# Altium schematic symbol library SSST.SchLib: 25 symbols
Pins are listed as number, name and electrical type; pins without a type are passive.

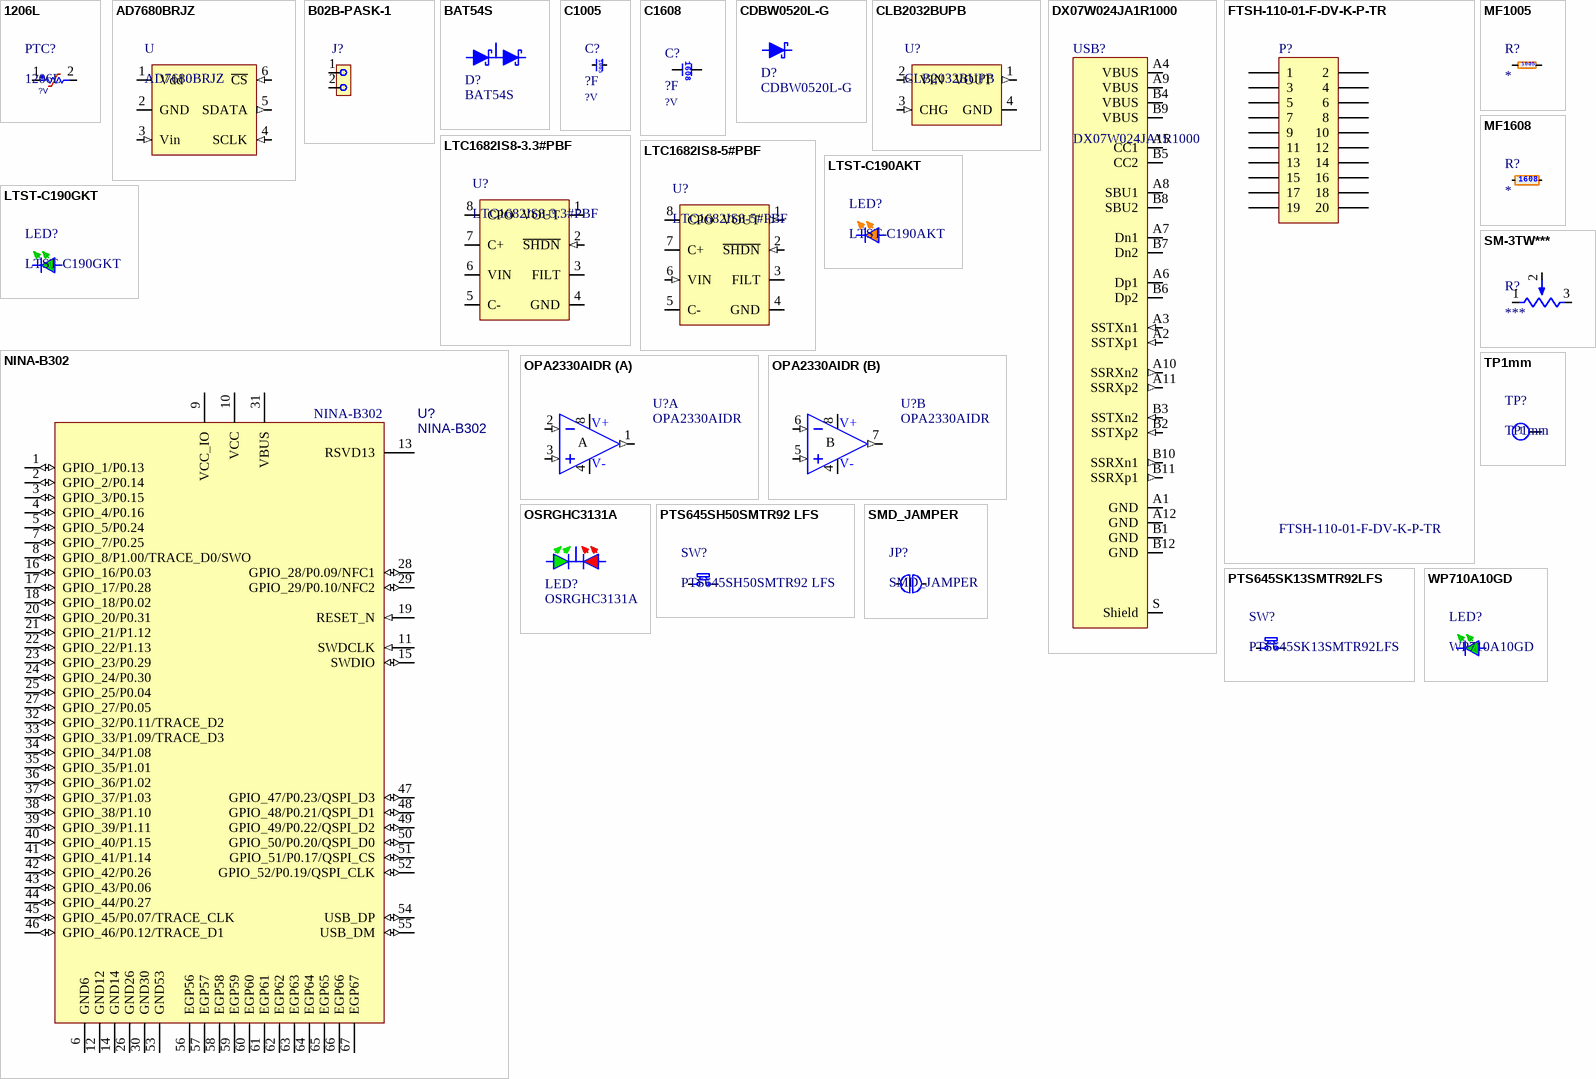
[diagram p0: symbols 1206L to WP710A10GD]

## 1206L
designator PTC?  Voltage: ?V
Resettable PTC; Vendor: Littelfuse; Trip_Current: *; Hold_Current: *
footprint 1206L (Footprint not found)
pins: 1, 2

## AD7680BRJZ
designator U
16bit ADC 2.5V～5.5V SOT23; Vender: Analog Devices
footprint SOT-23-6 (SOT-23/SC-74A; 6 Leads; Body 3.1 x 3.1 mm)
pins: 1 Vdd (power), 2 GND (power), 3 Vin (in), 4 SCLK (in), 5 SDATA (out), 6 ~{CS} (in)

## B02B-PASK-1
designator J?
雄,ストレート,1列2ピン; Vendor: JST
footprint B02B-PASK-1 (JST2ピンコネクタ)
pins: 1, 2

## BAT54S
designator D?
ダブル直列ショットキー; Vendor: Fairchild
footprint SOT-23 (SOT23, 3-Leads, Body 2.9x1.3mm, Pitch 0.95mm, Lead Span 2.4mm)
pins: 1 A, 2 K, 3 C

## C1005
designator C?  Tag: ?F  Voltage: ?V  (hidden comment: C1005)
セラコン1005サイズ; Vendor: *
footprint C1005
pins: 1, 2
text: 1005

## C1608
designator C?  Tag: ?F  Voltage: ?V  (hidden comment: C1608)
セラコン1608サイズ; Vendor: *
footprint C1608
pins: 1, 2
text: 1608

## CDBW0520L-G
designator D?
Schottky Rectifier; Vendor: Comchip Technology; Voltage: 20V; Current: 500mA
footprint SOD-123
pins: A, K

## CLB2032BUPB
designator U?
CLB電池ユニット　ピンタイプ
footprint CLB2032BUPB (3.7V出力電池　ピン出力タイプ)
pins: 1 VOUT (out), 2 VIN (in), 3 CHG (in), 4 GND (power)

## DX07W024JA1R1000
designator USB?
USB3.1 Type-C; Vendor: JAE
footprint DX07W024JA1R1000 (USB3.1 Type-C)
pins: A1 GND (power), A2 SSTXp1 (in), A3 SSTXn1 (in), A4 VBUS, A5 CC1, A6 Dp1 (io), A7 Dn1 (io), A8 SBU1, A9 VBUS, A10 SSRXn2 (out), A11 SSRXp2 (out), A12 GND (power), B1 GND (power), B2 SSTXp2 (in), B3 SSTXn2 (in), B4 VBUS, B5 CC2, B6 Dp2 (io), B7 Dn2 (io), B8 SBU2, B9 VBUS, B10 SSRXn1 (out), B11 SSRXp1 (out), B12 GND (power), S Shield

## FTSH-110-01-F-DV-K-P-TR
designator P?
Header, 2 x 10 -Pin 1.27mm
footprint Headerpin 2x10 (Headerpin 2x10,1.27mm Pitch)
pins: 1, 2, 3, 4, 5, 6, 7, 8, 9, 10, 11, 12, 13, 14, 15, 16, 17, 18, 19, 20

## LTC1682IS8-3.3#PBF
designator U?
IC REG CHARGE PUMP 3.3V 8SOIC
footprint SOIC8_3.9mm (3.9mm Wide,1.27mm Pitch)
pins: 1 VOUT (power), 2 ~{SHDN} (in), 3 FILT, 4 GND (power), 5 C-, 6 VIN (power), 7 C+, 8 CPO

## LTC1682IS8-5#PBF
designator U?
IC REG CHARGE PUMP 5V MSOP8
footprint SOIC8_3.9mm (3.9mm Wide,1.27mm Pitch)
pins: 1 VOUT (out), 2 ~{SHDN} (in), 3 FILT, 4 GND (power), 5 C-, 6 VIN (in), 7 C+, 8 CPO

## LTST-C190AKT
designator LED?
LED 1608 AMBER; Vendor: Lite-On; Compatible: APT1608SECK; Color: AMBER
footprint LED1608
pins: A, K

## LTST-C190GKT
designator LED?
LED 1608 GREEN; Vendor: Lite-On; Compatible: APT1608SGC; Color: Green
footprint LED1608
pins: A, K

## MF1005
designator R?  (value not drawn)
薄膜チップ抵抗1005サイズ; Vendor: *; Tag: *
footprint R1005
pins: 1, 2
text: 1005

## MF1608
designator R?  (value not drawn)
薄膜チップ抵抗1608サイズ; Vendor: *; Tag: *
footprint R1608
pins: 1, 2
text: 1608

## NINA-B302
designator U?
u-blox NINA-B302 Bluetooth 5 LE, 802.15.4 module; Part Description: Stand-alone Bluetooth low energy module; Manufacturer: u-blox; Value: NINA-B302
footprint NINA_LGA67R_1500X1000X338_PIFA (Stand-alone Bluetooth low energy module)
pins: 1 GPIO_1/P0.13 (io), 2 GPIO_2/P0.14 (io), 3 GPIO_3/P0.15 (io), 4 GPIO_4/P0.16 (io), 5 GPIO_5/P0.24 (io), 6 GND6 (power), 7 GPIO_7/P0.25 (io), 8 GPIO_8/P1.00/TRACE_D0/SWO (io), 9 VCC_IO (power), 10 VCC (power), 11 SWDCLK (in), 12 GND12 (power), 13 RSVD13, 14 GND14 (power), 15 SWDIO (io), 16 GPIO_16/P0.03 (io), 17 GPIO_17/P0.28 (io), 18 GPIO_18/P0.02 (io), 19 RESET_N (in), 20 GPIO_20/P0.31 (io), 21 GPIO_21/P1.12 (io), 22 GPIO_22/P1.13 (io), 23 GPIO_23/P0.29 (io), 24 GPIO_24/P0.30 (io), 25 GPIO_25/P0.04 (io), 26 GND26 (power), 27 GPIO_27/P0.05 (io), 28 GPIO_28/P0.09/NFC1 (io), 29 GPIO_29/P0.10/NFC2 (io), 30 GND30 (power), 31 VBUS (power), 32 GPIO_32/P0.11/TRACE_D2 (io), 33 GPIO_33/P1.09/TRACE_D3 (io), 34 GPIO_34/P1.08 (io), 35 GPIO_35/P1.01 (io), 36 GPIO_36/P1.02 (io), 37 GPIO_37/P1.03 (io), 38 GPIO_38/P1.10 (io), 39 GPIO_39/P1.11 (io), 40 GPIO_40/P1.15 (io), 41 GPIO_41/P1.14 (io), 42 GPIO_42/P0.26 (io), 43 GPIO_43/P0.06 (io), 44 GPIO_44/P0.27 (io), 45 GPIO_45/P0.07/TRACE_CLK (io), 46 GPIO_46/P0.12/TRACE_D1 (io), 47 GPIO_47/P0.23/QSPI_D3 (io), 48 GPIO_48/P0.21/QSPI_D1 (io), 49 GPIO_49/P0.22/QSPI_D2 (io), 50 GPIO_50/P0.20/QSPI_D0 (io), 51 GPIO_51/P0.17/QSPI_CS (io), 52 GPIO_52/P0.19/QSPI_CLK (io), 53 GND53 (power), 54 USB_DP (io), 55 USB_DM (io), 56 EGP56 (power), 57 EGP57 (power), 58 EGP58 (power), 59 EGP59 (power), 60 EGP60 (power), 61 EGP61 (power), 62 EGP62 (power), 63 EGP63 (power), 64 EGP64 (power), 65 EGP65 (power), 66 EGP66 (power), 67 EGP67 (power)

## OPA2330AIDR
designator U?
CMOS ゼロドリフトアンプ 2回路 レールツーレール 8SOIC; Vendor: Texas Instruments
footprint SOIC8_3.9mm (SOIC, 8-Leads, Body 5.0x4.0mm (max), Pitch 1.27mm, IPC Medium Density)
pins on every part: 4 V- (power), 8 V+ (power)
part A pins: 1 OUT (out), 2 IN- (in), 3 IN+ (in)
part B pins: 5 IN+ (in), 6 IN- (in), 7 OUT (out)
part A text: A
part B text: B

## OSRGHC3131A
designator LED?
2色LED（赤,青）; Vendor: AKIZUKI
footprint LED3COLORS
pins: 1 A, 2 K, 3 C

## PTS645SH50SMTR92 LFS
designator SW?
Tactile Switch 6 x 6mm; Vendor: C&K
footprint PTS645SH50SMTR92 LFS
pins: 1, 2, 3, 4

## PTS645SK13SMTR92LFS
designator SW?
Tactile Switch 6 x 6mm; Vendor: C&K
footprint PTS645SK13SMTR92LFS
pins: 1, 2, 3, 4

## SM-3TW***
designator R?  Tag: ***  (hidden comment: SM-3TW***)
CERMET TRIMMER 11 turns Top adjustmet; Vendor: Copal
footprint SM-3TW (Footprint not found)
pins: 1, 2, 3

## SMD_JAMPER
designator JP?  (no BOM)
footprint SMD_JAMPER
pins: 1, 2

## TP1mm
designator TP?  (no BOM)
Test-Point 1mm
footprint TP1mm (Footprint not found)
pins: 1

## WP710A10GD
designator LED?
LED T1 GREEN; Vendor: Kingbright; Color: Green
footprint LED_T1 (Footprint not found)
pins: A, K